# Altium schematic symbol library MCED_Schlib.SchLib: 18 symbols
Pins are listed as number, name and electrical type; pins without a type are passive.

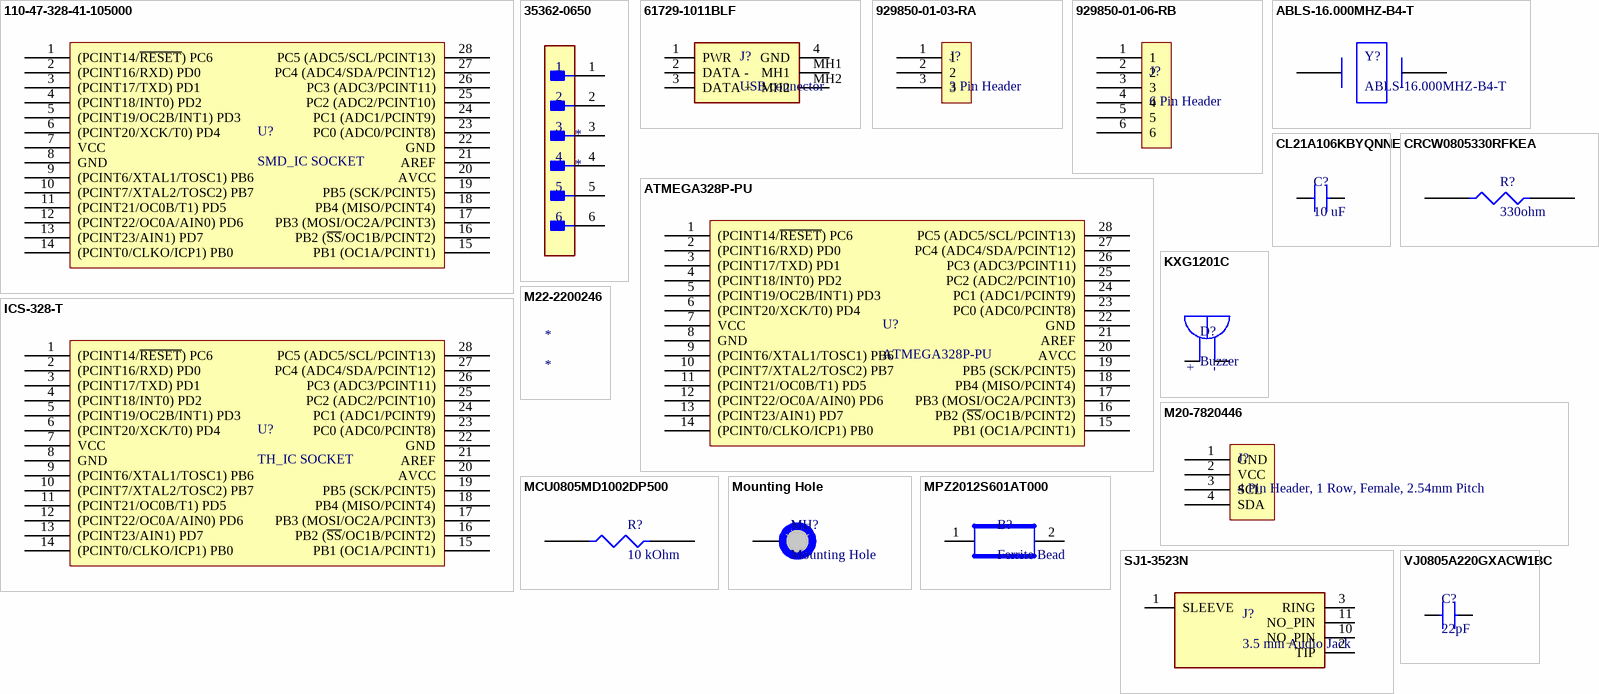
[diagram p0: symbols 110-47-328-41-105000 to VJ0805A220GXACW1BC]

## 110-47-328-41-105000
designator U?, comment SMD_IC SOCKET
Manufacturer: Mill-Max; Manufacturer Part Number: 110-47-328-41-105000; Supplier: Digi-Key; Supplier Part Number: ED11092-ND; RoHS: Yes; Category: Connectors; Stock: 95; Pricing: 1=3.13, 10=2.845, 25=2.6948, 50=2.6322, 100=2.5068, 250=2.19348, 500=2.1308, 1000=1.81744, 2500=1.6921 (USD); Contact Finish - Mating: NOT SPECIFIED; Device Socket Type: IC SOCKET; Reach SVHC Compliant: No; RoHS Compliant: Yes; ComponentLink1URL: https://datasheet.ciiva.com:443/pdfs/VipMasterIC/IC/MMMC/MMMC-S-A0004812669/MMMC-S-A0004813215-1.pdf?src-supplier=IHS+Markit; ComponentLink1Description: https://datasheet.ciiva.com:443/pdfs/VipMasterIC/IC/MMMC/MMMC-S-A0004812669/MMMC-S-A0004813215-1.pdf?src-supplier=IHS+Markit; ComponentLink2URL: https://www.mill-max.com/assets/pdfs/090.pdf?src-supplier=Digi-Key; ComponentLink2Description: https://www.mill-max.com/assets/pdfs/090.pdf?src-supplier=Digi-Key
footprint IC_SOCKET_28dip_SMD
pins: 1 (PCINT14/~{RESET}) PC6, 2 (PCINT16/RXD) PD0, 3 (PCINT17/TXD) PD1, 4 (PCINT18/INT0) PD2, 5 (PCINT19/OC2B/INT1) PD3, 6 (PCINT20/XCK/T0) PD4, 7 VCC, 8 GND, 9 (PCINT6/XTAL1/TOSC1) PB6, 10 (PCINT7/XTAL2/TOSC2) PB7, 11 (PCINT21/OC0B/T1) PD5, 12 (PCINT22/OC0A/AIN0) PD6, 13 (PCINT23/AIN1) PD7, 14 (PCINT0/CLKO/ICP1) PB0, 15 PB1 (OC1A/PCINT1), 16 PB2 (~{SS}/OC1B/PCINT2), 17 PB3 (MOSI/OC2A/PCINT3), 18 PB4 (MISO/PCINT4), 19 PB5 (SCK/PCINT5), 20 AVCC, 21 AREF, 22 GND, 23 PC0 (ADC0/PCINT8), 24 PC1 (ADC1/PCINT9), 25 PC2 (ADC2/PCINT10), 26 PC3 (ADC3/PCINT11), 27 PC4 (ADC4/SDA/PCINT12), 28 PC5 (ADC5/SCL/PCINT13)

## 35362-0650
designator *
Board Connector, 6 Contact(s), 1 Row(s), Male, Straight, 0.079 inch Pitch, Solder Terminal, Locking, Receptacle; Manufacturer: Molex; Manufacturer Part Number: 35362-0650; Contact Pattern: RECTANGULAR; Contact Style: SQ PIN-SKT; Number Of Connectors: 1; Number of Contacts: 6; Body Depth: 0.335inch; Body Length: 0.563inch; Body Breadth: 0.217inch; Reference Standard: UL; Reliability: COMMERCIAL; Supplier: Mouser; Supplier Part Number: 538-35362-0650; RoHS: Yes; Category: Headers and Wire Housings; Stock: 20542; Pricing: 1=0.42, 10=0.341, 50=0.341, 100=0.265, 1000=0.233, 10000=0.202 (USD); Mounting Technology: Board; Contact Finish - Mating: SN; Contact Finish - Termination: Tin (Sn); Insulation Material: Polyamide; Contact Material: Brass; Connector Type: BOARD CONNECTOR; JESD-609 Code: e3; Contact Gender: Male; Mounting Style: STRAIGHT; Number of Rows Loaded: 1; PCB Contact Pattern: RECTANGULAR; Termination: Solder; Body/Shell Style: RECEPTACLE; Number Of PCB Rows: 1; Mating Contact Pitch: 0.079inch; Mounting Option 1: LOCKING; Terminal Pitch: 2.0066mm; Terminal Length: 0.13inch; Reach SVHC Compliant: Yes; RoHS Compliant: Yes; ComponentLink1URL: https://datasheet.ciiva.com:443/pdfs/VipMasterIC/IC/MOLE/MOLE-S-A0001395430/MOLE-S-A0001395951-1.pdf?src-supplier=IHS+Markit; ComponentLink1Description: https://datasheet.ciiva.com:443/pdfs/VipMasterIC/IC/MOLE/MOLE-S-A0001395430/MOLE-S-A0001395951-1.pdf?src-supplier=IHS+Markit; ComponentLink2URL: https://datasheet.ciiva.com/5155/0353620650-pcb-headers-163251-5155484.pdf?src-supplier=Mouser; ComponentLink2Description: https://datasheet.ciiva.com/5155/0353620650-pcb-headers-163251-5155484.pdf?src-supplier=Mouser; ComponentLink3URL: https://datasheet.ciiva.com/10035/0353620650-pcb-headers-10035842.pdf?src-supplier=Avnet; ComponentLink3Description: https://datasheet.ciiva.com/10035/0353620650-pcb-headers-10035842.pdf?src-supplier=Avnet; ComponentLink4URL: https://datasheet.ciiva.com/19461/1967707-19461970.pdf?src-supplier=Jameco; ComponentLink4Description: https://datasheet.ciiva.com/19461/1967707-19461970.pdf?src-supplier=Jameco; ComponentLink5URL: https://datasheet.ciiva.com/30237/328060353620650-pcb-headers-30237274.pdf?src-supplier=Onlinecomponents.com; ComponentLink5Description: https://datasheet.ciiva.com/30237/328060353620650-pcb-headers-30237274.pdf?src-supplier=Onlinecomponents.com; ComponentLink6URL: https://datasheet.ciiva.com/17034/70255544-17034518.pdf?src-supplier=Allied+Electronics; ComponentLink6Description: https://datasheet.ciiva.com/17034/70255544-17034518.pdf?src-supplier=Allied+Electronics
footprint FP-35362-0650-MFG
pins: 1, 2, 3, 4, 5, 6

## 61729-1011BLF
designator J?, comment USB connector
USB 2.0 connector, Type B, Receptacle, Through Hole, 30u GXT Contact, 4 Pins, 1.57mm PCB; Manufacturer: Amphenol ICC / FCI; Manufacturer Part Number: 61729-1011BLF; Supplier: Avnet; Supplier Part Number: 61729-1011BLF; RoHS: No; Category: Connectors; ComponentLink1URL: https://datasheet.ciiva.com/8015/697864-8015261.pdf?src-supplier=Element14; ComponentLink1Description: https://datasheet.ciiva.com/8015/697864-8015261.pdf?src-supplier=Element14
footprint USB 2.0 type B 617291011BLF
pins: 1 PWR, 2 DATA -, 3 DATA +, 4 GND, MH1 "Mounting Header 1", MH2 "Mounting Header 2"

## 929850-01-03-RA
designator J?, comment 3 Pin Header
3 Pin Header Board Connector, 3 Contact(s), 1 Row(s), Female, Straight, Solder Terminal, Socket; Manufacturer: 3M; Manufacturer Part Number: 929850-01-03-RA; Manufacturer Series: 929; Option: General Purpose; Filter Feature: No; Number of Rows Loaded: 1; Number of Contacts: 3; Supplier: Digi-Key; Supplier Part Number: 19-929850-01-03-RA-ND; RoHS: Yes; Category: Headers and Wire Housings; Stock: 1296; Pricing: 1=1.97, 10=1.719, 100=1.536, 500=1.28002, 1000=1.09716, 5000=0.97282, 10000=0.95088 (USD); Mounting Technology: Board; Contact Material: Copper Alloy; Contact Finish - Mating: GOLD (10) OVER NICKEL (100); Contact Finish - Termination: MATTE TIN OVER NICKEL (100); Connector Type: BOARD CONNECTOR; JESD-609 Code: e3; Additional Feature: 3M; Body/Shell Style: SOCKET; Contact Gender: Female; Mixed Contacts: No; Mounting Style: STRAIGHT; Termination: Solder; Terminal Pitch: 2.54mm; Flammability Rating: UL94 V-0; DIN Conformance: No; IEC Conformance: No; MIL Conformance: No; Reach SVHC Compliant: Yes; RoHS Compliant: Yes; ComponentLink1URL: https://datasheet.ciiva.com:443/pdfs/VipMasterIC/IC/IIIM/IIIMS03618/IIIMS03618-1.pdf?src-supplier=IHS+Markit; ComponentLink1Description: https://datasheet.ciiva.com:443/pdfs/VipMasterIC/IC/IIIM/IIIMS03618/IIIMS03618-1.pdf?src-supplier=IHS+Markit; ComponentLink2URL: https://datasheet.ciiva.com/746/ts0815-746343.pdf?src-supplier=Digi-Key; ComponentLink2Description: https://datasheet.ciiva.com/746/ts0815-746343.pdf?src-supplier=Digi-Key; ComponentLink3URL: https://datasheet.ciiva.com/5167/ts0815-5167287.pdf?src-supplier=Mouser; ComponentLink3Description: https://datasheet.ciiva.com/5167/ts0815-5167287.pdf?src-supplier=Mouser
footprint 3 PIN HEADER
pins: 1, 2, 3

## 929850-01-06-RB
designator J?, comment 6 Pin Header
6 Pin Header Board Connector; Manufacturer: 3M; Manufacturer Part Number: 929850-01-06-RB; Manufacturer Series: 929; Supplier: Mouser; Supplier Part Number: 517-929850-01-06-RB; RoHS: Yes; Category: Headers and Wire Housings; Stock: 258; Pricing: 1=2.56, 10=2.08, 50=2.08, 100=1.99, 1000=1.42, 10000=1.26 (USD); Connector Type: BOARD CONNECTOR; Reach SVHC Compliant: Yes; RoHS Compliant: Yes; ComponentLink1URL: https://datasheet.ciiva.com:443/pdfs/VipMasterIC/IC/IIIM/IIIMS03618/IIIMS03618-1.pdf?src-supplier=IHS+Markit; ComponentLink1Description: https://datasheet.ciiva.com:443/pdfs/VipMasterIC/IC/IIIM/IIIMS03618/IIIMS03618-1.pdf?src-supplier=IHS+Markit; ComponentLink2URL: https://datasheet.ciiva.com/5148/ts0815-5148223.pdf?src-supplier=Mouser; ComponentLink2Description: https://datasheet.ciiva.com/5148/ts0815-5148223.pdf?src-supplier=Mouser; ComponentLink3URL: https://datasheet.ciiva.com/756/ts0815-756418.pdf?src-supplier=Digi-Key; ComponentLink3Description: https://datasheet.ciiva.com/756/ts0815-756418.pdf?src-supplier=Digi-Key
footprint 6 PIN HEADER
pins: 1, 2, 3, 4, 5, 6

## ABLS-16.000MHZ-B4-T
designator Y?
16MHz ±30ppm 晶体 18pF 40 欧姆 -20°C ~ 70°C  表面贴装 HC49/US; Manufacturer: Abracon; Supplier: LCSC; Supplier Part Number: C596821; Manufacturer Part Number: ABLS-16.000MHZ-B4-T; RoHS: Yes; Category: Crystals; Stock: 196; Pricing: 1=0.2737, 10=0.1984, 30=0.1552, 100=0.136, 500=0.1275, 1000=0.1224 (USD); ComponentLink1URL: https://datasheet.ciiva.com/15116/getdatasheetpartid-719935-15116811.pdf?src-supplier=Verical; ComponentLink1Description: https://datasheet.ciiva.com/15116/getdatasheetpartid-719935-15116811.pdf?src-supplier=Verical; ComponentLink2URL: https://datasheet.ciiva.com/854/abls-854145.pdf?src-supplier=Digi-Key; ComponentLink2Description: https://datasheet.ciiva.com/854/abls-854145.pdf?src-supplier=Digi-Key; ComponentLink3URL: https://datasheet.ciiva.com/854/abls-854144.pdf?src-supplier=Digi-Key; ComponentLink3Description: https://datasheet.ciiva.com/854/abls-854144.pdf?src-supplier=Digi-Key; ComponentLink4URL: https://datasheet.ciiva.com/854/abls-854146.pdf?src-supplier=Digi-Key; ComponentLink4Description: https://datasheet.ciiva.com/854/abls-854146.pdf?src-supplier=Digi-Key; ComponentLink5URL: https://datasheet.ciiva.com/3175/abls-3175359.pdf?src-supplier=Avnet; ComponentLink5Description: https://datasheet.ciiva.com/3175/abls-3175359.pdf?src-supplier=Avnet; ComponentLink6URL: https://datasheet.ciiva.com/16423/abls-16423759.pdf?src-supplier=Future+Electronics; ComponentLink6Description: https://datasheet.ciiva.com/16423/abls-16423759.pdf?src-supplier=Future+Electronics
footprint ABLS-16.000MHZ-B4-T_CRYSTAL
pins: 1, 2

## ATMEGA328P-PU
designator U?
RISC Microcontroller, 8-Bit, FLASH, AVR RISC CPU, 20MHz, CMOS, PDIP28; Manufacturer: Microchip; Package Body Material: Plastic; Number of I/O Lines: 23; Package Equivalence Code: DIP28,.3; Power Supplies: 2.5V; Speed: 20RPM; Max Supply Current: 9mA; Max Supply Voltage: 5.5V; Min Supply Voltage: 4.5V; Nominal Supply Voltage: 5V; Surface Mount: No; Qualification Status: Not Qualified; Supplier Part Number: C33901; Manufacturer Part Number: ATMEGA328P-PU; RoHS: Yes; Category: Uncategorized; Stock: 165; Pricing: 1=5.056, 10=4.4069, 28=4.0123, 98=3.6798 (USD); Case/Package: DIP; Pins: 28; Package Shape: Rectangular; Terminal Finish: Tin; Min Operating Temperature: -40°C; Max Operating Temperature: 85°C; JESD-609 Code: e3; Clock Frequency: 20MHz; JESD-30 Code: R-PDIP-T28; Package Style: IN-LINEMeter; Technology: CMOS; Terminal Form: Through Hole; Terminal Position: DUAL; Length: 34.671mm; Width: 7.62mm; Height - Seated (Max): 4.5724mm; Terminal Pitch: 2.54mm; Temperature Grade: INDUSTRIAL; Reach SVHC Compliant: Yes; RoHS Compliant: Yes; ComponentLink1URL: https://datasheet.ciiva.com:443/pdfs/VipMasterIC/IC/ATML/ATML-S-A0002642585/ATML-S-A0002642585-1.pdf?src-supplier=IHS+Markit; ComponentLink1Description: https://datasheet.ciiva.com:443/pdfs/VipMasterIC/IC/ATML/ATML-S-A0002642585/ATML-S-A0002642585-1.pdf?src-supplier=IHS+Markit; ComponentLink2URL: https://datasheet.ciiva.com/19457/2139111-19457070.pdf?src-supplier=Jameco; ComponentLink2Description: https://datasheet.ciiva.com/19457/2139111-19457070.pdf?src-supplier=Jameco; ComponentLink3URL: https://datasheet.ciiva.com/1157/1684409-1157696.pdf?src-supplier=Element14; ComponentLink3Description: https://datasheet.ciiva.com/1157/1684409-1157696.pdf?src-supplier=Element14; ComponentLink4URL: https://datasheet.ciiva.com/29119/155197-da-01-en-microcontr-atmega328p-pu-8bit-pdip-28-29119593.pdf?src-supplier=Conrad; ComponentLink4Description: https://datasheet.ciiva.com/29119/155197-da-01-en-microcontr-atmega328p-pu-8bit-pdip-28-29119593.pdf?src-supplier=Conrad; ComponentLink5URL: https://datasheet.ciiva.com/15213/getdatasheetpartid-318533-15213133.pdf?src-supplier=Verical; ComponentLink5Description: https://datasheet.ciiva.com/15213/getdatasheetpartid-318533-15213133.pdf?src-supplier=Verical; Supplier: LCSC
footprint Atmega328p-pu-28dip - duplicate
pins: 1 (PCINT14/~{RESET}) PC6, 2 (PCINT16/RXD) PD0, 3 (PCINT17/TXD) PD1, 4 (PCINT18/INT0) PD2, 5 (PCINT19/OC2B/INT1) PD3, 6 (PCINT20/XCK/T0) PD4, 7 VCC, 8 GND, 9 (PCINT6/XTAL1/TOSC1) PB6, 10 (PCINT7/XTAL2/TOSC2) PB7, 11 (PCINT21/OC0B/T1) PD5, 12 (PCINT22/OC0A/AIN0) PD6, 13 (PCINT23/AIN1) PD7, 14 (PCINT0/CLKO/ICP1) PB0, 15 PB1 (OC1A/PCINT1), 16 PB2 (~{SS}/OC1B/PCINT2), 17 PB3 (MOSI/OC2A/PCINT3), 18 PB4 (MISO/PCINT4), 19 PB5 (SCK/PCINT5), 20 AVCC, 21 AREF, 22 GND, 23 PC0 (ADC0/PCINT8), 24 PC1 (ADC1/PCINT9), 25 PC2 (ADC2/PCINT10), 26 PC3 (ADC3/PCINT11), 27 PC4 (ADC4/SDA/PCINT12), 28 PC5 (ADC5/SCL/PCINT13)

## CL21A106KBYQNNE
designator C?, comment 10 uF
10 uF Ceramic Capacitor, Multilayer, Ceramic, 50V, 10% +Tol, 10% -Tol, X5R, 15% TC, 10uF, Surface Mount, 0805; Manufacturer: Samsung; Manufacturer Part Number: CL21A106KBYQNNE; Supplier: Mouser; Supplier Part Number: 187-CL21A106KBYQNNE; RoHS: Yes; Category: Ceramic Capacitors; Stock: 29602; Pricing: 1=0.42, 10=0.299, 50=0.299, 100=0.197, 1000=0.124, 10000=0.1 (USD); Pins: 2; Dielectric Material: Ceramic; Capacitor Type: Ceramic; Reach SVHC Compliant: Yes; RoHS Compliant: Yes; ComponentLink1URL: https://datasheet.ciiva.com:443/pdfs/VipMasterIC/IC/SEMS/SEMS-S-A0008524728/SEMS-S-A0008519922-1.pdf?src-supplier=IHS+Markit; ComponentLink1Description: https://datasheet.ciiva.com:443/pdfs/VipMasterIC/IC/SEMS/SEMS-S-A0008524728/SEMS-S-A0008519922-1.pdf?src-supplier=IHS+Markit
footprint C0805
pins: 1, 2

## CRCW0805330RFKEA
designator R?, comment 330ohm
330ohm, Fixed Resistor, Metal Glaze/thick Film, 0.125W, 150V, 1% +/-Tol, 100ppm/Cel, Surface Mount, 0805; Manufacturer: Vishay; Manufacturer Part Number: CRCW0805330RFKEA; Power: 125mW; Value: 330R; Temperature Coefficient: 100ppm/°C; Rated Temperature: 70°C; Package Height: 0.45mm; Package Length: 2mm; Package Width: 1.25mm; Reference Standard: AEC-Q200; Supplier: Mouser; Supplier Part Number: 71-CRCW0805-330-E3; RoHS: Yes; Category: Chip SMD Resistors; Stock: 46; Pricing: 1=0.13, 10=0.068, 50=0.068, 100=0.028, 1000=0.013, 10000=0.008 (USD); Mounting Technology: Surface Mount; Pins: 2; Case/Package: 0805; Terminal Finish: Nickel; Package Shape: Rectangular; Min Operating Temperature: -55°C; Max Operating Temperature: 155°C; Tolerance: 1%; JESD-609 Code: e3; Resistor Type: FIXED RESISTOR; Construction: Chip; Package Style: SMTMeter; Packaging: Tape and Reel; Technology: METAL GLAZE/THICK FILM; Working Voltage: 150V; Termination: Wraparound; Reach SVHC Compliant: Yes; RoHS Compliant: Yes; ComponentLink1URL: https://datasheet.ciiva.com:443/pdfs/VipMasterIC/IC/VISH/VISH-S-A0007266705/VISH-S-A0007266705-1.pdf?src-supplier=IHS+Markit; ComponentLink1Description: https://datasheet.ciiva.com:443/pdfs/VipMasterIC/IC/VISH/VISH-S-A0007266705/VISH-S-A0007266705-1.pdf?src-supplier=IHS+Markit; ComponentLink2URL: https://datasheet.ciiva.com/7777/1720486-7777573.pdf?src-supplier=Element14; ComponentLink2Description: https://datasheet.ciiva.com/7777/1720486-7777573.pdf?src-supplier=Element14; ComponentLink3URL: https://datasheet.ciiva.com/8944/dcrcwe3-8944773.pdf?src-supplier=Avnet; ComponentLink3Description: https://datasheet.ciiva.com/8944/dcrcwe3-8944773.pdf?src-supplier=Avnet; ComponentLink4URL: https://datasheet.ciiva.com/8944/dcrcwe3-8944776.pdf?src-supplier=Avnet; ComponentLink4Description: https://datasheet.ciiva.com/8944/dcrcwe3-8944776.pdf?src-supplier=Avnet; ComponentLink5URL: https://datasheet.ciiva.com/2495/dcrcwe3-2495804.pdf?src-supplier=Digi-Key; ComponentLink5Description: https://datasheet.ciiva.com/2495/dcrcwe3-2495804.pdf?src-supplier=Digi-Key; ComponentLink6URL: https://datasheet.ciiva.com/5545/dcrcwe3-109170-5545357.pdf?src-supplier=Mouser; ComponentLink6Description: https://datasheet.ciiva.com/5545/dcrcwe3-109170-5545357.pdf?src-supplier=Mouser; ComponentLink7URL: https://datasheet.ciiva.com/7777/1697337-7777390.pdf?src-supplier=Element14; ComponentLink7Description: https://datasheet.ciiva.com/7777/1697337-7777390.pdf?src-supplier=Element14; ComponentLink8URL: https://datasheet.ciiva.com/2495/dcrcwe3-2495805.pdf?src-supplier=Digi-Key; ComponentLink8Description: https://datasheet.ciiva.com/2495/dcrcwe3-2495805.pdf?src-supplier=Digi-Key; ComponentLink9URL: https://datasheet.ciiva.com/2495/dcrcwe3-2495803.pdf?src-supplier=Digi-Key; ComponentLink9Description: https://datasheet.ciiva.com/2495/dcrcwe3-2495803.pdf?src-supplier=Digi-Key; ComponentLink10URL: https://datasheet.ciiva.com/16769/70201119-16769852.pdf?src-supplier=Allied+Electronics; ComponentLink10Description: https://datasheet.ciiva.com/16769/70201119-16769852.pdf?src-supplier=Allied+Electronics
footprint 300Ohm RESC2012X60N (330 Ohm)
pins: 1, 2

## ICS-328-T
designator U?, comment TH_IC SOCKET
Through Hole IC Sockets 28P / .300"; Manufacturer: Adam Equipment; Manufacturer Part Number: ICS-328-T; Supplier: Arrow Electronics; Supplier Part Number: ICS-328-T; RoHS: Yes; Category: IC and Component Sockets; Stock: 603; Pricing: 1=0.1941, 17=0.1922, 34=0.1565, 51=0.1549, 85=0.1534, 238=0.139, 442=0.1333, 952=0.1182 (USD); ComponentLink1URL: https://datasheet.ciiva.com/16210/page-187-188-16210500.pdf?src-supplier=Future+Electronics; ComponentLink1Description: https://datasheet.ciiva.com/16210/page-187-188-16210500.pdf?src-supplier=Future+Electronics
footprint 28dip_through_hole_ic_socket
pins: 1 (PCINT14/~{RESET}) PC6, 2 (PCINT16/RXD) PD0, 3 (PCINT17/TXD) PD1, 4 (PCINT18/INT0) PD2, 5 (PCINT19/OC2B/INT1) PD3, 6 (PCINT20/XCK/T0) PD4, 7 VCC, 8 GND, 9 (PCINT6/XTAL1/TOSC1) PB6, 10 (PCINT7/XTAL2/TOSC2) PB7, 11 (PCINT21/OC0B/T1) PD5, 12 (PCINT22/OC0A/AIN0) PD6, 13 (PCINT23/AIN1) PD7, 14 (PCINT0/CLKO/ICP1) PB0, 15 PB1 (OC1A/PCINT1), 16 PB2 (~{SS}/OC1B/PCINT2), 17 PB3 (MOSI/OC2A/PCINT3), 18 PB4 (MISO/PCINT4), 19 PB5 (SCK/PCINT5), 20 AVCC, 21 AREF, 22 GND, 23 PC0 (ADC0/PCINT8), 24 PC1 (ADC1/PCINT9), 25 PC2 (ADC2/PCINT10), 26 PC3 (ADC3/PCINT11), 27 PC4 (ADC4/SDA/PCINT12), 28 PC5 (ADC5/SCL/PCINT13)

## KXG1201C
designator D?, comment Buzzer
Buzzer - Magnetic Indicator Active Buzzer [Kingstate], Pine Type, Dimensions(mm): 12.00*9.50, Voltage:1.2~3.0, Max current consumption(mA): Max. 30, SPL(dB): Min. 80dB(Typical 85)@10cm, Frequency(KHz): 2.30.; MP: KXG1201C; Package: None; MF: Kingstate; Value: *; Availability: In Stock; SnapEDA_Link: https://www.snapeda.com/parts/KXG1201C/Kingstate/view-part/?ref=snap; Price: None; Check_prices: https://www.snapeda.com/parts/KXG1201C/Kingstate/view-part/?ref=eda
footprint Buzzer
pins: N NEG, P POS
text: +; -

## M20-7820446
designator J?, comment 4 Pin Header, 1 Row, Female, 2.54mm Pitch
4 Pin Header Board Connector, 4 Contact(s), 1 Row(s), Female, Straight, 0.1 inch Pitch, Solder Terminal, Locking, Black Insulator, Socket; Manufacturer: Harwin; Manufacturer Part Number: M20-7820446; Option: General Purpose; Contact Pattern: RECTANGULAR; Contact Resistance: 20mR; Contact Style: SQ PIN-SKT; Dielectric Withstanding Voltage (AC): 1kV; Durability: 300Cycles; Filter Feature: No; Insulation Resistance: 1GR; Number Of Connectors: 1; Polarization Key: POLARIZED HOUSING; Rated Current (Signal): 3A; Number of Contacts: 4; Body Breadth: 0.098inch; Body Depth: 0.335inch; Body Length: 0.4inch; Reference Standard: UL; Reliability: COMMERCIAL; Supplier: Digi-Key; Supplier Part Number: 952-1792-ND; RoHS: Yes; Category: Headers and Wire Housings; Stock: 3461; Pricing: 1=1.02, 10=0.859, 100=0.771, 500=0.63084, 1000=0.56075, 5000=0.49066, 10000=0.46613 (USD); Mounting Technology: Board; Contact Finish - Mating: TIN; Contact Finish - Termination: TIN; Insulation Color: Black; Insulation Material: Polyamide; Min Operating Temperature: -40°C; Max Operating Temperature: 105°C; Connector Type: BOARD CONNECTOR; JESD-609 Code: e3; Body/Shell Style: SOCKET; Contact Gender: Female; Mixed Contacts: No; Mounting Style: STRAIGHT; Number Of PCB Rows: 1; Number of Rows Loaded: 1; PCB Contact Pattern: RECTANGULAR; Termination: Solder; Mating Contact Pitch: 0.1inch; Mounting Option 1: LOCKING; Terminal Length: 0.118inch; Terminal Pitch: 2.54mm; Flammability Rating: UL94 V-0; DIN Conformance: No; IEC Conformance: No; MIL Conformance: No; Reach SVHC Compliant: Yes; RoHS Compliant: Yes; ComponentLink1URL: https://datasheet.ciiva.com:443/pdfs/VipMasterIC/IC/HRWN/HRWN-S-A0004894635/HRWN-S-A0004894635-1.pdf?src-supplier=IHS+Markit; ComponentLink1Description: https://datasheet.ciiva.com:443/pdfs/VipMasterIC/IC/HRWN/HRWN-S-A0004894635/HRWN-S-A0004894635-1.pdf?src-supplier=IHS+Markit; ComponentLink2URL: https://datasheet.ciiva.com/11747/0900766b80dc1d2b-11747084.pdf?src-supplier=Rs; ComponentLink2Description: https://datasheet.ciiva.com/11747/0900766b80dc1d2b-11747084.pdf?src-supplier=Rs; ComponentLink3URL: https://datasheet.ciiva.com/6784/m20-782-6784360.pdf?src-supplier=Digi-Key; ComponentLink3Description: https://datasheet.ciiva.com/6784/m20-782-6784360.pdf?src-supplier=Digi-Key; ComponentLink4URL: https://datasheet.ciiva.com/7639/1836950-7639727.pdf?src-supplier=Element14; ComponentLink4Description: https://datasheet.ciiva.com/7639/1836950-7639727.pdf?src-supplier=Element14; ComponentLink5URL: https://datasheet.ciiva.com/10151/m20-782-10151359.pdf?src-supplier=Avnet; ComponentLink5Description: https://datasheet.ciiva.com/10151/m20-782-10151359.pdf?src-supplier=Avnet
footprint 4 Pin Header
pins: 1 GND, 2 VCC, 3 SCL, 4 SDA

## M22-2200246
designator *
Board Connector, 2 Contact(s), 1 Row(s), Male, Straight, 0.079 inch Pitch, Solder Terminal, Guide Slot, Black Insulator, Receptacle; Manufacturer: Harwin; Manufacturer Part Number: M22-2200246; Number Of Connectors: 1; PCB Contact Pattern: RECTANGULAR; Number of Contacts: 2; Contact Style: SQ PIN-SKT; Option: General Purpose; Filter Feature: No; Contact Resistance: 30mR; Insulation Resistance: 1GR; Dielectric Withstanding Voltage (AC): 800V; Rated Current (Signal): 2A; Durability: 50Cycles; Polarization Key: POLARIZED HOUSING; Body Depth: 0.24inch; Body Length: 0.236inch; Body Breadth: 0.185inch; Mounting Option 2: LOCKING; Reference Standard: UL; Reliability: COMMERCIAL; Supplier: Mouser; Supplier Part Number: 855-M22-2200246; RoHS: Yes; Category: Headers and Wire Housings; Stock: 11659; Pricing: 1=0.27, 10=0.214, 50=0.214, 100=0.17, 1000=0.12, 10000=0.097 (USD); Mounting Technology: Board; Contact Finish - Mating: TIN; Contact Finish - Termination: Tin (Sn); Insulation Material: Nylon; Insulation Color: Black; Min Operating Temperature: -25°C; Max Operating Temperature: 85°C; Mounting Style: STRAIGHT; Number of Rows Loaded: 1; Termination: Solder; Connector Type: BOARD CONNECTOR; JESD-609 Code: e3; Contact Gender: Male; Contact Pattern: RECTANGULAR; Number Of PCB Rows: 1; Body/Shell Style: RECEPTACLE; Mixed Contacts: No; Terminal Pitch: 2mm; Mating Contact Pitch: 0.079inch; Mounting Option 1: GUIDE SLOT; Terminal Length: 0.134inch; Flammability Rating: UL94 V-0; Reach SVHC Compliant: Yes; RoHS Compliant: Yes; DIN Conformance: No; IEC Conformance: No; MIL Conformance: No; ComponentLink1URL: https://datasheet.ciiva.com:443/pdfs/VipMasterIC/IC/HRWN/HRWN-S-A0001370680/HRWN-S-A0001371099-1.pdf?src-supplier=IHS+Markit; ComponentLink1Description: https://datasheet.ciiva.com:443/pdfs/VipMasterIC/IC/HRWN/HRWN-S-A0001370680/HRWN-S-A0001371099-1.pdf?src-supplier=IHS+Markit; ComponentLink2URL: http://www.mouser.com/ds/2/181/M22-220-1134326.pdf?src-supplier=Mouser; ComponentLink2Description: http://www.mouser.com/ds/2/181/M22-220-1134326.pdf?src-supplier=Mouser; ComponentLink3URL: https://cdn.harwin.com/pdfs/M22-220.pdf?src-supplier=Digi-Key; ComponentLink3Description: https://cdn.harwin.com/pdfs/M22-220.pdf?src-supplier=Digi-Key; ComponentLink4URL: http://www.harwin.com/include/downloads/pdfs/2010PAGE112.PDF?src-supplier=Avnet; ComponentLink4Description: http://www.harwin.com/include/downloads/pdfs/2010PAGE112.PDF?src-supplier=Avnet

## MCU0805MD1002DP500
designator R?, comment 10 kOhm
10 kOhm, Fixed Resistor, Thin Film, 0.2W, 10000ohm, 150V, 0.5% +/-Tol, -25,25ppm/Cel, 0805; Manufacturer: Vishay Beyschlag; Manufacturer Part Number: MCU0805MD1002DP500; Power: 200mW; Value: 10kR; Temperature Coefficient: -2525ppm/°C; Package Height: 0.52mm; Package Length: 2mm; Package Width: 1.25mm; Reference Standard: AEC-Q200; Supplier: Mouser; Supplier Part Number: 594-MCU0805MD1002DP5; RoHS: Yes; Category: Chip SMD Resistors; Stock: 49020; Pricing: 1=0.39, 10=0.3, 50=0.3, 100=0.127, 1000=0.07, 10000=0.06 (USD); Pins: 2; Case/Package: 0805; Terminal Finish: Nickel; Min Operating Temperature: -55°C; Max Operating Temperature: 175°C; Tolerance: 0.5%; JESD-609 Code: e3; Resistor Type: FIXED RESISTOR; Construction: Chip; Package Style: SMTMeter; Packaging: Tape and Reel; Series: MCU 0805 AT-PROF; Technology: THIN FILM; Working Voltage: 150V; Reach SVHC Compliant: Yes; RoHS Compliant: Yes; ComponentLink1URL: https://datasheet.ciiva.com:443/pdfs/VipMasterIC/IC/VISH/VISH-S-A0002932058/VISH-S-A0002932058-1.pdf?src-supplier=IHS+Markit; ComponentLink1Description: https://datasheet.ciiva.com:443/pdfs/VipMasterIC/IC/VISH/VISH-S-A0002932058/VISH-S-A0002932058-1.pdf?src-supplier=IHS+Markit; ComponentLink2URL: https://datasheet.ciiva.com/12696/mcat-pro-223602-12696124.pdf?src-supplier=Mouser; ComponentLink2Description: https://datasheet.ciiva.com/12696/mcat-pro-223602-12696124.pdf?src-supplier=Mouser
footprint 10K (Resistor)
pins: 1, 2

## Mounting Hole
designator MH?  (no BOM)
footprint Mounting Hole
pins: 1

## MPZ2012S601AT000
designator B?, comment Ferrite Bead
Ferrite Bead, 1 Function(s), 2A; Manufacturer: TDK; Manufacturer Part Number: MPZ2012S601AT000; DC Resistance-Max: 100mR; Filter Type: FERRITE CHIP; Clock Frequency: 100MHz; Channels: 1; Output Impedance: 600R; Supplier: Mouser; Supplier Part Number: 810-MPZ2012S601AT000; RoHS: Yes; Category: Ferrite Beads and Chips; Stock: 782263; Pricing: 1=0.12, 10=0.061, 50=0.061, 100=0.042, 1000=0.035, 10000=0.027 (USD); Mounting Technology: Surface Mount; Material: Ferrite; Case Code: 0805; Terminal Finish: Copper; Min Operating Temperature: -55°C; Max Operating Temperature: 125°C; JESD-609 Code: e2; Construction: Chip Bead; Min Frequency: 100MHz; Packaging: Tape and Reel; Current Rating: 2A; Length: 2mm; Width: 1.25mm; Height: 0.85mm; Reach SVHC Compliant: Yes; RoHS Compliant: Yes; ComponentLink1URL: https://datasheet.ciiva.com:443/pdfs/VipMasterIC/IC/TDKC/TDKC-S-A0008032886/TDKC-S-A0008032886-1.pdf?src-supplier=IHS+Markit; ComponentLink1Description: https://datasheet.ciiva.com:443/pdfs/VipMasterIC/IC/TDKC/TDKC-S-A0008032886/TDKC-S-A0008032886-1.pdf?src-supplier=IHS+Markit; ComponentLink2URL: https://datasheet.ciiva.com/46634/beads-commercial-power-mpz-en-46634335.pdf?src-supplier=Digi-Key; ComponentLink2Description: https://datasheet.ciiva.com/46634/beads-commercial-power-mpz-en-46634335.pdf?src-supplier=Digi-Key; ComponentLink3URL: https://datasheet.ciiva.com/46634/beads-commercial-power-mpz-en-46634377.pdf?src-supplier=Digi-Key; ComponentLink3Description: https://datasheet.ciiva.com/46634/beads-commercial-power-mpz-en-46634377.pdf?src-supplier=Digi-Key; ComponentLink4URL: https://datasheet.ciiva.com/46634/beads-commercial-power-mpz-en-46634606.pdf?src-supplier=Digi-Key; ComponentLink4Description: https://datasheet.ciiva.com/46634/beads-commercial-power-mpz-en-46634606.pdf?src-supplier=Digi-Key
footprint FERRITE BEAD C2012X105N (FERRITE BEAD)
pins: 1, 2

## SJ1-3523N
designator J?, comment 3.5 mm Audio Jack
3.5 mm Audio Jack, Female, 3 Pole(s), Solder Terminal, Jack; Manufacturer: CUI Devices; Manufacturer Part Number: SJ1-3523N; Supplier: Mouser; Supplier Part Number: 490-SJ1-3523N; RoHS: Yes; Category: Audio / Video Connectors; Stock: 9497; Pricing: 1=1.08, 10=0.913, 50=0.913, 100=0.819, 1000=0.596, 10000=0.495 (USD); Reach SVHC Compliant: Yes
footprint Audio Jack SJ13523N (audio jack)
pins: 1 SLEEVE, 2 TIP, 3 RING, 10 NO_PIN, 11 NO_PIN

## VJ0805A220GXACW1BC
designator C?, comment 22pF
22pF Ceramic Capacitor, Multilayer, Ceramic, 50V, 2% +Tol, 2% -Tol, C0G, -/+30ppm/Cel TC, 0.000022uF, Surface Mount, 0805; Manufacturer: Vishay Vitramon; Manufacturer Part Number: VJ0805A220GXACW1BC; Manufacturer Series: VJ; Multilayer: Yes; Supplier: LCSC; Supplier Part Number: C2174318; RoHS: Yes; Category: Ceramic Capacitors; Stock: 3750; Pricing: 5=0.0755, 50=0.0623, 150=0.0557, 500=0.0508, 2500=0.042, 4000=0.04 (USD); Mounting Technology: Surface Mount; Pins: 2; Dielectric Material: Ceramic; Package Shape: Rectangular; Case/Package: 0805; Terminal Finish: Tin; Min Operating Temperature: -55°C; Max Operating Temperature: 125°C; JESD-609 Code: e3; Value: 22pF; Capacitor Type: Ceramic; Tolerance  (fill in as +-): 2%; Packaging: Tape and Reel; Tolerance (fill in as +-): 2%; Rated DC Voltage (URdc): 50V; Temperature Characteristics Code: C0G; Termination: Wraparound; Reach SVHC Compliant: Yes; RoHS Compliant: Yes; ComponentLink1URL: https://datasheet.ciiva.com:443/pdfs/VipMasterIC/IC/BEYS/BEYSS01615/BEYSS01615-1.pdf?src-supplier=IHS+Markit; ComponentLink1Description: https://datasheet.ciiva.com:443/pdfs/VipMasterIC/IC/BEYS/BEYSS01615/BEYSS01615-1.pdf?src-supplier=IHS+Markit; ComponentLink2URL: https://datasheet.ciiva.com/16511/vjw1bcbascomseries-16511287.pdf?src-supplier=Future+Electronics; ComponentLink2Description: https://datasheet.ciiva.com/16511/vjw1bcbascomseries-16511287.pdf?src-supplier=Future+Electronics
footprint C0805
pins: 1, 2